# EAGLE library part PIC32MZ2048EFG144-I/PH (library PIC32MZ2048EFG144-I_PH)
MCU 32-Bit PIC32MZEF PIC RISC 2MB Flash 2.5V/3.3V 144-Pin TQFP Tray
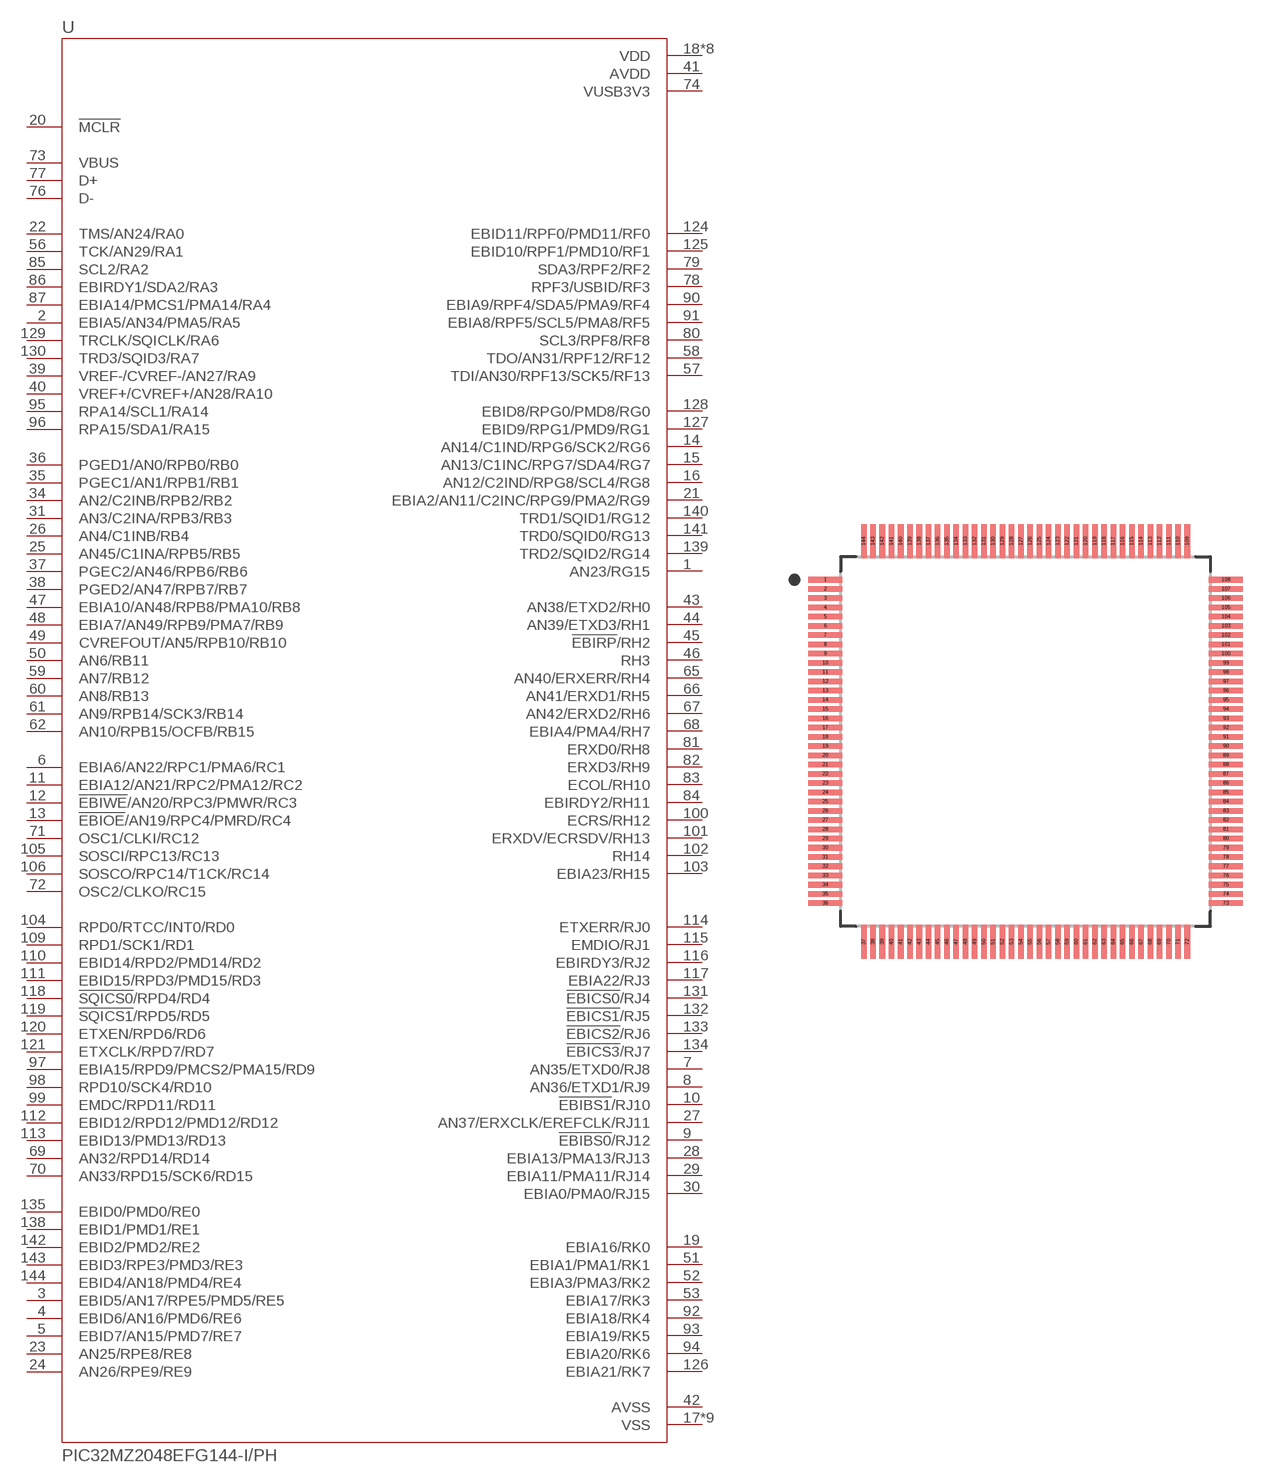
[diagram p0: symbol with the pads of QFP40P1800X1800X120-144N; footprint QFP40P1800X1800X120-144N]

Designator prefix U

## PIC32MZ2048EFG144-I/PH (Availability: Unavailable; Description: MCU 32-Bit PIC32MZEF PIC RISC 2MB Flash 2.5V/3.3V 144-Pin TQFP Tray; MF: Microchip; MP: PIC32MZ2048EFG144-I/PH; Package: TQFP-144 Microchip; Price: None)  [QFP40P1800X1800X120-144N]
1  AN23/RG15
2  EBIA5/AN34/PMA5/RA5
3  EBID5/AN17/RPE5/PMD5/RE5
4  EBID6/AN16/PMD6/RE6
5  EBID7/AN15/PMD7/RE7
6  EBIA6/AN22/RPC1/PMA6/RC1
7  AN35/ETXD0/RJ8
8  AN36/ETXD1/RJ9
9  !EBIBS0!/RJ12
10  !EBIBS1!/RJ10
11  EBIA12/AN21/RPC2/PMA12/RC2
12  !EBIWE!/AN20/RPC3/PMWR/RC3
13  !EBIOE!/AN19/RPC4/PMRD/RC4
14  AN14/C1IND/RPG6/SCK2/RG6
15  AN13/C1INC/RPG7/SDA4/RG7
16  AN12/C2IND/RPG8/SCL4/RG8
17  VSS  pwr
18  VDD  pwr
19  EBIA16/RK0
20  !MCLR  in
21  EBIA2/AN11/C2INC/RPG9/PMA2/RG9
22  TMS/AN24/RA0
23  AN25/RPE8/RE8
24  AN26/RPE9/RE9
25  AN45/C1INA/RPB5/RB5
26  AN4/C1INB/RB4
27  AN37/ERXCLK/EREFCLK/RJ11
28  EBIA13/PMA13/RJ13
29  EBIA11/PMA11/RJ14
30  EBIA0/PMA0/RJ15
31  AN3/C2INA/RPB3/RB3
32  VSS  pwr
33  VDD  pwr
34  AN2/C2INB/RPB2/RB2
35  PGEC1/AN1/RPB1/RB1
36  PGED1/AN0/RPB0/RB0
37  PGEC2/AN46/RPB6/RB6
38  PGED2/AN47/RPB7/RB7
39  VREF-/CVREF-/AN27/RA9
40  VREF+/CVREF+/AN28/RA10
41  AVDD  pwr
42  AVSS  pwr
43  AN38/ETXD2/RH0
44  AN39/ETXD3/RH1
45  !EBIRP!/RH2
46  RH3
47  EBIA10/AN48/RPB8/PMA10/RB8
48  EBIA7/AN49/RPB9/PMA7/RB9
49  CVREFOUT/AN5/RPB10/RB10
50  AN6/RB11
51  EBIA1/PMA1/RK1
52  EBIA3/PMA3/RK2
53  EBIA17/RK3
54  VSS  pwr
55  VDD  pwr
56  TCK/AN29/RA1
57  TDI/AN30/RPF13/SCK5/RF13
58  TDO/AN31/RPF12/RF12
59  AN7/RB12
60  AN8/RB13
61  AN9/RPB14/SCK3/RB14
62  AN10/RPB15/OCFB/RB15
63  VSS  pwr
64  VDD  pwr
65  AN40/ERXERR/RH4
66  AN41/ERXD1/RH5
67  AN42/ERXD2/RH6
68  EBIA4/PMA4/RH7
69  AN32/RPD14/RD14
70  AN33/RPD15/SCK6/RD15
71  OSC1/CLKI/RC12
72  OSC2/CLKO/RC15
73  VBUS  in
74  VUSB3V3  pwr
75  VSS  pwr
76  D-
77  D+
78  RPF3/USBID/RF3
79  SDA3/RPF2/RF2
80  SCL3/RPF8/RF8
81  ERXD0/RH8
82  ERXD3/RH9
83  ECOL/RH10
84  EBIRDY2/RH11
85  SCL2/RA2
86  EBIRDY1/SDA2/RA3
87  EBIA14/PMCS1/PMA14/RA4
88  VDD  pwr
89  VSS  pwr
90  EBIA9/RPF4/SDA5/PMA9/RF4
91  EBIA8/RPF5/SCL5/PMA8/RF5
92  EBIA18/RK4
93  EBIA19/RK5
94  EBIA20/RK6
95  RPA14/SCL1/RA14
96  RPA15/SDA1/RA15
97  EBIA15/RPD9/PMCS2/PMA15/RD9
98  RPD10/SCK4/RD10
99  EMDC/RPD11/RD11
100  ECRS/RH12
101  ERXDV/ECRSDV/RH13
102  RH14
103  EBIA23/RH15
104  RPD0/RTCC/INT0/RD0
105  SOSCI/RPC13/RC13
106  SOSCO/RPC14/T1CK/RC14
107  VDD  pwr
108  VSS  pwr
109  RPD1/SCK1/RD1
110  EBID14/RPD2/PMD14/RD2
111  EBID15/RPD3/PMD15/RD3
112  EBID12/RPD12/PMD12/RD12
113  EBID13/PMD13/RD13
114  ETXERR/RJ0
115  EMDIO/RJ1
116  EBIRDY3/RJ2
117  EBIA22/RJ3
118  !SQICS0!/RPD4/RD4
119  !SQICS1!/RPD5/RD5
120  ETXEN/RPD6/RD6
121  ETXCLK/RPD7/RD7
122  VDD  pwr
123  VSS  pwr
124  EBID11/RPF0/PMD11/RF0
125  EBID10/RPF1/PMD10/RF1
126  EBIA21/RK7
127  EBID9/RPG1/PMD9/RG1
128  EBID8/RPG0/PMD8/RG0
129  TRCLK/SQICLK/RA6
130  TRD3/SQID3/RA7
131  !EBICS0!/RJ4
132  !EBICS1!/RJ5
133  !EBICS2!/RJ6
134  !EBICS3!/RJ7
135  EBID0/PMD0/RE0
136  VSS  pwr
137  VDD  pwr
138  EBID1/PMD1/RE1
139  TRD2/SQID2/RG14
140  TRD1/SQID1/RG12
141  TRD0/SQID0/RG13
142  EBID2/PMD2/RE2
143  EBID3/RPE3/PMD3/RE3
144  EBID4/AN18/PMD4/RE4

## Footprint QFP40P1800X1800X120-144N (pad centres in mm)
smd 1.47 x 0.24: 1 -8.67,7; 2 -8.67,6.6; 3 -8.67,6.2; 4 -8.67,5.8; 5 -8.67,5.4; 6 -8.67,5; 7 -8.67,4.6; 8 -8.67,4.2; 9 -8.67,3.8; 10 -8.67,3.4; 11 -8.67,3; 12 -8.67,2.6; 13 -8.67,2.2; 14 -8.67,1.8; 15 -8.67,1.4; 16 -8.67,1; 17 -8.67,0.6; 18 -8.67,0.2; 19 -8.67,-0.2; 20 -8.67,-0.6; 21 -8.67,-1; 22 -8.67,-1.4; 23 -8.67,-1.8; 24 -8.67,-2.2; 25 -8.67,-2.6; 26 -8.67,-3; 27 -8.67,-3.4; 28 -8.67,-3.8; 29 -8.67,-4.2; 30 -8.67,-4.6; 31 -8.67,-5; 32 -8.67,-5.4; 33 -8.67,-5.8; 34 -8.67,-6.2; 35 -8.67,-6.6; 36 -8.67,-7; 73 8.67,-7; 74 8.67,-6.6; 75 8.67,-6.2; 76 8.67,-5.8; 77 8.67,-5.4; 78 8.67,-5; 79 8.67,-4.6; 80 8.67,-4.2; 81 8.67,-3.8; 82 8.67,-3.4; 83 8.67,-3; 84 8.67,-2.6; 85 8.67,-2.2; 86 8.67,-1.8; 87 8.67,-1.4; 88 8.67,-1; 89 8.67,-0.6; 90 8.67,-0.2; 91 8.67,0.2; 92 8.67,0.6; 93 8.67,1; 94 8.67,1.4; 95 8.67,1.8; 96 8.67,2.2; 97 8.67,2.6; 98 8.67,3; 99 8.67,3.4; 100 8.67,3.8; 101 8.67,4.2; 102 8.67,4.6; 103 8.67,5; 104 8.67,5.4; 105 8.67,5.8; 106 8.67,6.2; 107 8.67,6.6; 108 8.67,7
smd 0.24 x 1.47: 37 -7,-8.67; 38 -6.6,-8.67; 39 -6.2,-8.67; 40 -5.8,-8.67; 41 -5.4,-8.67; 42 -5,-8.67; 43 -4.6,-8.67; 44 -4.2,-8.67; 45 -3.8,-8.67; 46 -3.4,-8.67; 47 -3,-8.67; 48 -2.6,-8.67; 49 -2.2,-8.67; 50 -1.8,-8.67; 51 -1.4,-8.67; 52 -1,-8.67; 53 -0.6,-8.67; 54 -0.2,-8.67; 55 0.2,-8.67; 56 0.6,-8.67; 57 1,-8.67; 58 1.4,-8.67; 59 1.8,-8.67; 60 2.2,-8.67; 61 2.6,-8.67; 62 3,-8.67; 63 3.4,-8.67; 64 3.8,-8.67; 65 4.2,-8.67; 66 4.6,-8.67; 67 5,-8.67; 68 5.4,-8.67; 69 5.8,-8.67; 70 6.2,-8.67; 71 6.6,-8.67; 72 7,-8.67; 109 7,8.67; 110 6.6,8.67; 111 6.2,8.67; 112 5.8,8.67; 113 5.4,8.67; 114 5,8.67; 115 4.6,8.67; 116 4.2,8.67; 117 3.8,8.67; 118 3.4,8.67; 119 3,8.67; 120 2.6,8.67; 121 2.2,8.67; 122 1.8,8.67; 123 1.4,8.67; 124 1,8.67; 125 0.6,8.67; 126 0.2,8.67; 127 -0.2,8.67; 128 -0.6,8.67; 129 -1,8.67; 130 -1.4,8.67; 131 -1.8,8.67; 132 -2.2,8.67; 133 -2.6,8.67; 134 -3,8.67; 135 -3.4,8.67; 136 -3.8,8.67; 137 -4.2,8.67; 138 -4.6,8.67; 139 -5,8.67; 140 -5.4,8.67; 141 -5.8,8.67; 142 -6.2,8.67; 143 -6.6,8.67; 144 -7,8.67